# Altium schematic symbol library Depin.SchLib: 1 symbol
Pins are listed as number, name and electrical type; pins without a type are passive.

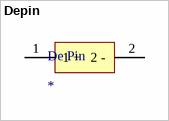
[diagram p0: symbol Depin]

## Depin
designator De Pin
footprint DePin
pins: 1 1 +, 2 2 -